# EAGLE library part 5559IN13U (library 5559)
5559ИН13У
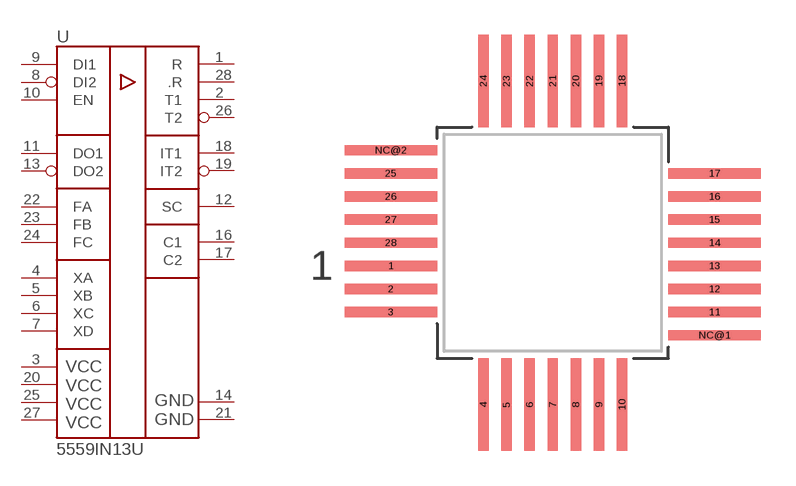
[diagram p5: symbol with the pads of H09.28-1B; footprint H09.28-1B]

Designator prefix U

## 5559IN13U  [H09.28-1B]
1  R
2  T1
3  VCC
4  XA
5  XB
6  XC
7  XD
8  DI2
9  DI1
10  EN
11  DO1
12  SC
13  DO2
14  GND
16  C1
17  C2
18  IT1
19  IT2
20  VCC
21  GND
22  FA
23  FB
24  FC
25  VCC
26  T2
27  VCC
28  .R

## Footprint H09.28-1B (pad centres in mm)
smd 4 x 0.45: 1 -7,-1; 2 -7,-2; 3 -7,-3; 11 7,-3; 12 7,-2; 13 7,-1; 14 7,0; 15 7,1; 16 7,2; 17 7,3; 25 -7,3; 26 -7,2; 27 -7,1; 28 -7,0; NC@1 7,-4; NC@2 -7,4
smd 0.45 x 4: 4 -3,-7; 5 -2,-7; 6 -1,-7; 7 0,-7; 8 1,-7; 9 2,-7; 10 3,-7; 18 3,7; 19 2,7; 20 1,7; 21 0,7; 22 -1,7; 23 -2,7; 24 -3,7